# Altium schematic symbol library SCH - SENSOR - CURRENT - TI TPS25921ADR.SCHLIB: 1 symbol
Pins are listed as number, name and electrical type; pins without a type are passive.

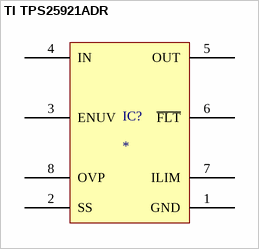
[diagram p0: symbol TI TPS25921ADR]

## TI TPS25921ADR
designator IC?
pins: 1 GND, 2 SS, 3 ENUV, 4 IN, 5 OUT, 6 ~{FLT}, 7 ILIM, 8 OVP